# Altium schematic symbol library BD7LS04G-CTL.SchLib: 1 symbol
Pins are listed as number, name and electrical type; pins without a type are passive.

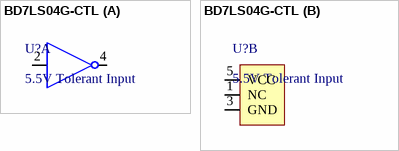
[diagram p0: symbol BD7LS04G-CTL]

## BD7LS04G-CTL
designator U?, comment 5.5V Tolerant Input
part A pins: 2 A, 4 Y
part B pins: 1 NC, 3 GND, 5 VCC